# EAGLE library part ARDUINONANO (library CRE-Lib1)
Arduino Nano
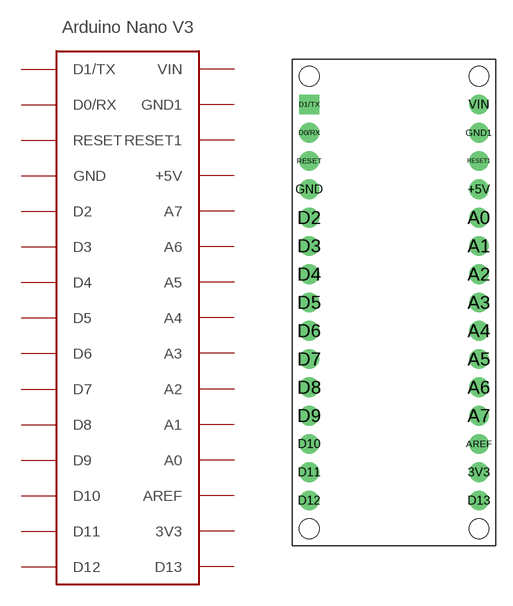
[diagram p0: symbol with the pads of PDIP-32; footprint PDIP-32]

Designator prefix -

## ARDUINONANO  [PDIP-32]
3V3  3V3
+5V  +5V
A0  A7
A1  A6
A2  A5
A3  A4
A4  A3
A5  A2
A6  A1
A7  A0
AREF  AREF
D0/RX  D0/RX
D1/TX  D1/TX
D2  D2
D3  D3
D4  D4
D5  D5
D6  D6
D7  D7
D8  D8
D9  D9
D10  D10
D11  D11
D12  D12
D13  D13
GND  GND
GND1  GND1
RESET  RESET
RESET1  RESET1
VIN  VIN

## Footprint PDIP-32 (pad centres in mm)
drill 0.8 pad 1.778: 3V3 15.24,-35.56; +5V 15.24,-10.16; A0 15.24,-12.7; A1 15.24,-15.24; A2 15.24,-17.78; A3 15.24,-20.32; A4 15.24,-22.86; A5 15.24,-25.4; A6 15.24,-27.94; A7 15.24,-30.48; AREF 15.24,-33.02; D0/RX 0,-5.08; D2 0,-12.7; D3 0,-15.24; D4 0,-17.78; D5 0,-20.32; D6 0,-22.86; D7 0,-25.4; D8 0,-27.94; D9 0,-30.48; D10 0,-33.02; D11 0,-35.56; D12 0,-38.1; D13 15.24,-38.1; GND 0,-10.16; GND1 15.24,-5.08; RESET 0,-7.62; RESET1 15.24,-7.62; VIN 15.24,-2.54
drill 0.8 pad 1.778 square: D1/TX 0,-2.54
hole 1.778 at 0,0
hole 1.778 at 0,-40.64
hole 1.778 at 15.24,-40.64
hole 1.778 at 15.24,0